# Altium footprint library Tubes.PcbLib: 4 footprints
Each footprint in its own frame and in the unit in brackets; x right, y up, seen from the top. Pads: shape width x height; smd on the part's side, far side on the other; paste and mask are expansions set on the pad; w line width, h text height; cw(c..) or ccw(c..) is an arc to the next point about the centre after c.
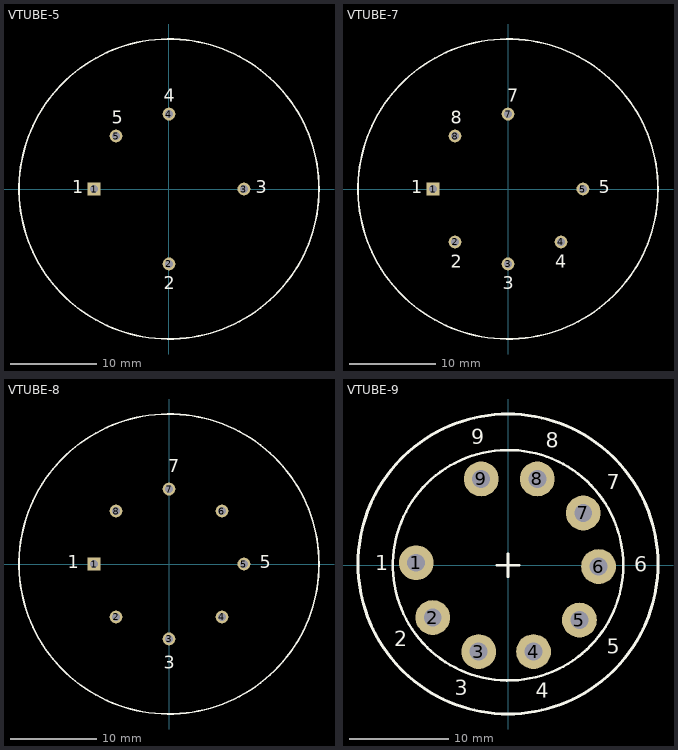
[diagram p0: the footprints below, top view; thin cyan lines are the x and y axes]

## VTUBE-5 [mm] "Thyratron; 5 Leads"
pads (5):
  rect 1.5x1.5 hole 0.9: 1(-8.725,0)
  round 1.5 hole 0.9: 2(0,-8.725) 3(8.725,0) 4(0,8.725) 5(-6.17,6.17)
Top Overlay:
  circle w0.2: c0,0 r17.462
  text "1" at -11.265,-0.508 h1.5
  text "2" at -0.597,-11.684 h1.5
  text "4" at -0.597,10.16 h1.5
  text "5" at -6.693,7.62 h1.5
  text "3" at 10.071,-0.508 h1.5

## VTUBE-7 [mm] "Beam Power Pentode; 7 Leads"
height 108
pads (7):
  rect 1.5x1.5 hole 0.9: 1(-8.725,0)
  round 1.5 hole 0.9: 2(-6.17,-6.17) 3(0,-8.725) 4(6.17,-6.17) 5(8.725,0) 7(0,8.725) 8(-6.17,6.17)
Top Overlay:
  circle w0.2: c0,0 r17.462
  text "1" at -11.265,-0.508 h1.5
  text "2" at -6.693,-9.144 h1.5
  text "3" at -0.597,-11.684 h1.5
  text "4" at 5.499,-9.144 h1.5
  text "5" at 10.579,-0.508 h1.5
  text "7" at -0.089,10.16 h1.5
  text "8" at -6.693,7.62 h1.5

## VTUBE-8 [mm] "Medium Mu Dual Triode; 8 Leads"
height 108
pads (8):
  rect 1.5x1.5 hole 0.9: 1(-8.725,0)
  round 1.5 hole 0.9: 2(-6.17,-6.17) 3(0,-8.725) 4(6.17,-6.17) 5(8.725,0) 6(6.17,6.17) 7(0,8.725) 8(-6.17,6.17)
Top Overlay:
  circle w0.2: c0,0 r17.462
  text "1" at -11.773,-0.508 h1.5
  text "3" at -0.597,-12.192 h1.5
  text "5" at 10.579,-0.508 h1.5
  text "7" at -0.089,10.668 h1.5

## VTUBE-9 [mm] "Medium Mu Dual Triode; 9 Leads"
height 55.6
pads (9):
  round 3.5 hole 1.8: 1(-9.233,0.254) 2(-7.567,-5.255) 3(-2.95,-8.679) 4(2.569,-8.679) 5(7.186,-5.509) 6(9.106,-0.127) 7(7.567,5.255) 8(2.95,8.679) 9(-2.696,8.679)
Top Overlay:
  circle w0.254: c0,0 r11.588
  circle w0.3: c0,0.127 r15.081
  lines w0.254: -1.143,0 1.143,0 ; 0,-1.143 0,1.143
  text "8" at 3.81,11.811 h1.5
  text "7" at 9.906,7.62 h1.5
  text "5" at 9.906,-8.89 h1.5
  text "3" at -5.334,-13.081 h1.5
  text "2" at -11.43,-8.128 h1.5
  text "1" at -13.335,-0.508 h1.5
  text "9" at -3.683,12.192 h1.5
  text "6" at 12.7,-0.635 h1.5
  text "4" at 2.794,-13.335 h1.5
3D body "User Library-montagem sem blindagem.STEP": height 13.26, standoff -2.55, extent -15.027,-14.826 14.928,14.942